# Altium schematic symbol library L电感.SchLib: 15 symbols
Pins are listed as number, name and electrical type; pins without a type are passive.

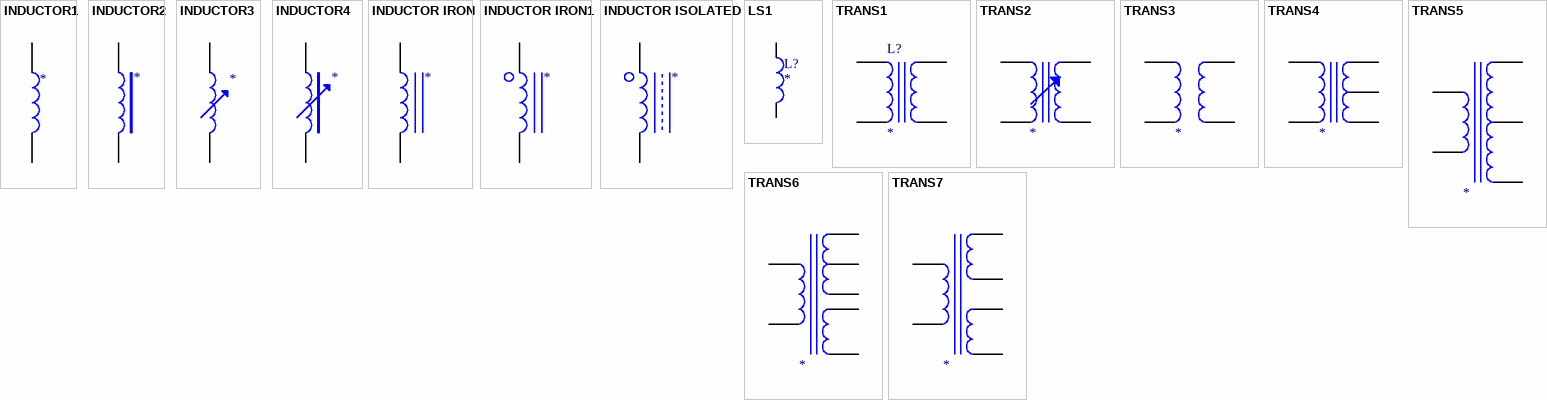
[diagram p0: symbols INDUCTOR1 to TRANS7]

## INDUCTOR1
designator ?
pins: 1, 2

## INDUCTOR2
designator ?
pins: 1, 2

## INDUCTOR3
designator ?
pins: 1, 2

## INDUCTOR4
designator ?
pins: 1, 2

## INDUCTOR IRON
designator ?
pins: 1, 2

## INDUCTOR IRON1
designator ?
pins: 1, 2

## INDUCTOR ISOLATED
designator ?
pins: 1, 2

## LS1
designator L?
pins: 1, 2

## TRANS1
designator L?
footprint L6-18
pins: 1, 2, 3, 4

## TRANS2
designator ?
pins: 1, 2, 3, 4

## TRANS3
designator ?
pins: 1, 2, 3, 4

## TRANS4
designator ?
pins: 1, 2, 3, 4, 5

## TRANS5
designator ?
pins: 1, 2, 3, 4, 5

## TRANS6
designator ?
pins: 1, 1, 2, 3, 4, 5, 7

## TRANS7
designator ?
pins: 1, 2, 3, 4, 5, 6